# EAGLE library part SIM-CARD (library e-Lib-Connectors)
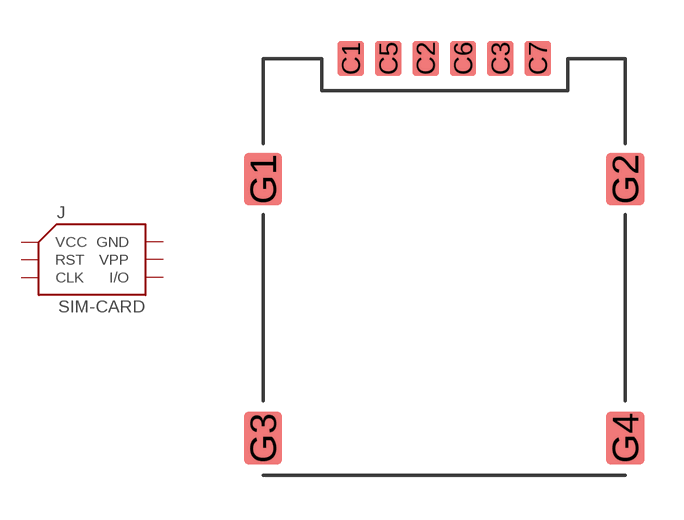
[diagram p0: symbol with the pads of NANO-SIM; footprint NANO-SIM]

Designator prefix J

## SIM-CARD-NANO-SIM (VALUE: NANO-SIM)  [NANO-SIM]
C1  VCC
C2  RST
C3  CLK
C5  GND
C6  VPP
C7  I/O
G1  GND
G2  GND
G3  GND
G4  GND

## Footprint NANO-SIM (pad centres in mm)
Datasheet <https://ae01.alicdn.com/kf/HTB1aYSZyYGYBuNjy0Foq6AiBFXag.jpg>
smd 0.9 x 1.2: C1 -3.37,7.82; C2 -0.83,7.82; C3 1.71,7.82; C5 -2.1,7.82; C6 0.44,7.82; C7 2.98,7.82
smd 1.3 x 1.8: G1 -6.35,3.72; G2 5.95,3.72; G3 -6.35,-5.08; G4 5.95,-5.08